# Altium footprint library ADIS16488+STM32.PcbLib: 14 footprints
Each footprint in its own frame and in the unit in brackets; x right, y up, seen from the top. Pads: shape width x height; smd on the part's side, far side on the other; paste and mask are expansions set on the pad; w line width, h text height; cw(c..) or ccw(c..) is an arc to the next point about the centre after c.
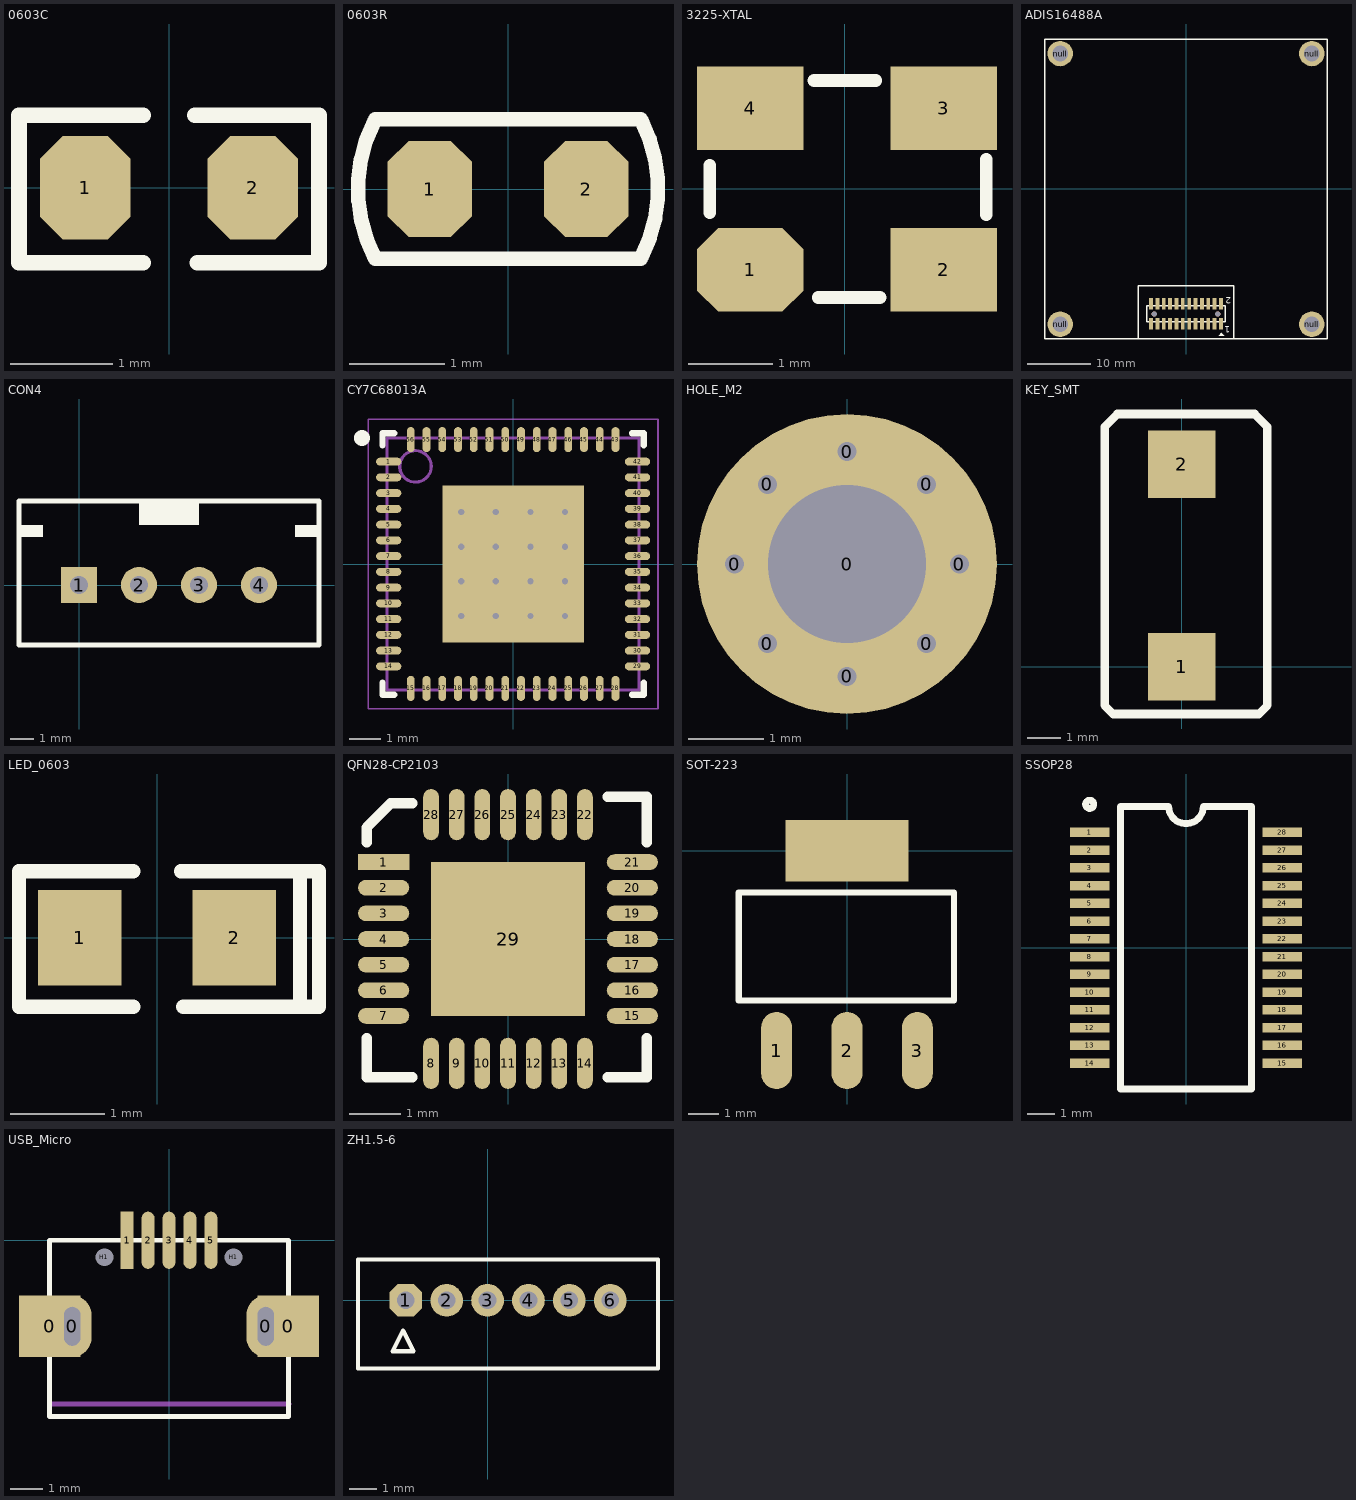
[diagram p0: the footprints below, top view; thin cyan lines are the x and y axes]

## 0603C [mil]
height 19.68
pads (2):
  oct 35x40 smd: 1(-32.47,0) 2(32.46,0)
Top Overlay:
  lines w6: -10,-29 -58,-29 -58,28 -10,28 ; 10,28 58,28 58,-29 11,-29
3D body: height 31.5, standoff 0, extent -31.49,-15.74 31.5,15.75

## 0603R [mil]
height 39.37
pads (2):
  oct 35x40 smd: 1(-32.46,0) 2(32.46,0)
Top Overlay:
  lines w6: -55.49,28.04 ccw(c0,0) -55,-29 55,-29 ; -55,29 55,29 ; 55.41,28.21 cw(c0,0) 55.49,-28.04
3D body: height 20.79, standoff 0, extent -49.64,-20.45 52.73,18.92

## 3225-XTAL [mm]
height 1.5
pads (4):
  oct 1.27x1 smd: 1(-1.127,-0.968)
  rect 1.27x1 smd: 2(1.184,-0.968) 3(1.184,0.962) 4(-1.127,0.962)
Top Overlay:
  lines w0.152: -1.61,-0.283 -1.61,0.276 ; -0.365,1.292 0.371,1.292 ; -0.314,-1.299 0.422,-1.299 ; 1.692,-0.308 1.692,0.352
3D body: height 0.61, standoff 0, extent -1.597,-1.208 1.603,1.292

## ADIS16488A [mm]
pads (28):
  rect 0.6x1.8 smd: 1(5.5,-21.209) 2(5.5,-18.107) 3(4.5,-21.209) 4(4.5,-18.107) 5(3.5,-21.209) 6(3.5,-18.107) 7(2.5,-21.209) 8(2.5,-18.107) 9(1.5,-21.209) 10(1.5,-18.107) 11(0.5,-21.209) 12(0.5,-18.107) 13(-0.5,-21.209) 14(-0.5,-18.107) 15(-1.5,-21.209) 16(-1.5,-18.107) 17(-2.5,-21.209) 18(-2.5,-18.107) 19(-3.5,-21.209) 20(-3.5,-18.107) 21(-4.5,-21.209) 22(-4.5,-18.107) 23(-5.5,-21.209) 24(-5.5,-18.107)
  round 4 hole 2.5: null(-19.8,-21.3) null(-19.8,21.3) null(19.8,-21.3) null(19.8,21.3)
via 5,-19.658 diameter 0.8 hole 0.8
via -5,-19.658 diameter 0.8 hole 0.8
Top Overlay:
  region: 5.118,-23.076 5.55,-22.644 5.982,-23.076
  lines w0.203: -7.5,-23.622 -7.5,-15.25 7.5,-15.25 7.5,-23.571 ; -22.2,-23.6 -22.2,23.6 22.2,23.6 22.2,-23.6 -22.2,-23.6 ; -6.2,-20.928 6.2,-20.928 6.2,-18.388 -6.2,-18.388 -6.2,-20.928
  text "1" at 6.985,-21.59 h1.02
  text "2" at 7.112,-17.018 h1.02
Top Solder:
  lines w0.203: -1.5,0 1.5,0 ; 0,-1.5 0,1.5
Bottom Solder:
  lines w0.203: -1.5,0 1.5,0 ; 0,-1.5 0,1.5

## CON4 [mil]
pads (4):
  rect 60x60 hole 30: 1(0,0)
  round 60 hole 30: 2(100,0) 3(200,0) 4(300,0)
Top Overlay:
  region: 400,80 400,100 360,100 360,80
  region: -60,80 -60,100 -100,100 -100,80
  region: 200,100 200,140 100,140 100,100
  lines w8: -100,-100 400,-100 400,140 -100,140 -100,-100

## CY7C68013A [mm]
height 1
pads (57):
  oval 0.8x0.25 smd: 1(-3.95,3.25) 2(-3.95,2.75) 3(-3.95,2.25) 4(-3.95,1.75) 5(-3.95,1.25) 6(-3.95,0.75) 7(-3.95,0.25) 8(-3.95,-0.25) 9(-3.95,-0.75) 10(-3.95,-1.25) 11(-3.95,-1.75) 12(-3.95,-2.25) 13(-3.95,-2.75) 14(-3.95,-3.25) 29(3.95,-3.25) 30(3.95,-2.75) 31(3.95,-2.25) 32(3.95,-1.75) 33(3.95,-1.25) 34(3.95,-0.75) 35(3.95,-0.25) 36(3.95,0.25) 37(3.95,0.75) 38(3.95,1.25) 39(3.95,1.75) 40(3.95,2.25) 41(3.95,2.75) 42(3.95,3.25)
  oval 0.25x0.8 smd: 15(-3.25,-3.95) 16(-2.75,-3.95) 17(-2.25,-3.95) 18(-1.75,-3.95) 19(-1.25,-3.95) 20(-0.75,-3.95) 21(-0.25,-3.95) 22(0.25,-3.95) 23(0.75,-3.95) 24(1.25,-3.95) 25(1.75,-3.95) 26(2.25,-3.95) 27(2.75,-3.95) 28(3.25,-3.95) 43(3.25,3.95) 44(2.75,3.95) 45(2.25,3.95) 46(1.75,3.95) 47(1.25,3.95) 48(0.75,3.95) 49(0.25,3.95) 50(-0.25,3.95) 51(-0.75,3.95) 52(-1.25,3.95) 53(-1.75,3.95) 54(-2.25,3.95) 55(-2.75,3.95) 56(-3.25,3.95)
  rect 4.5x5 smd: ""(0,0)
via 1.65,-1.65 diameter 0.5 hole 0.2
via 0.55,-1.65 diameter 0.5 hole 0.2
via -0.55,-1.65 diameter 0.5 hole 0.2
via -1.65,-1.65 diameter 0.5 hole 0.2
via 1.65,-0.55 diameter 0.5 hole 0.2
via 0.55,-0.55 diameter 0.5 hole 0.2
via -0.55,-0.55 diameter 0.5 hole 0.2
via -1.65,-0.55 diameter 0.5 hole 0.2
via 1.65,0.55 diameter 0.5 hole 0.2
via 0.55,0.55 diameter 0.5 hole 0.2
via -0.55,0.55 diameter 0.5 hole 0.2
via -1.65,0.55 diameter 0.5 hole 0.2
via 1.65,1.65 diameter 0.5 hole 0.2
via 0.55,1.65 diameter 0.5 hole 0.2
via -0.55,1.65 diameter 0.5 hole 0.2
via -1.65,1.65 diameter 0.5 hole 0.2
Top Overlay:
  circle w0.25: c-4.8,4 r0.125
  lines w0.2: -4.15,-3.775 -4.15,-4.15 -3.775,-4.15 ; -4.15,3.775 -4.15,4.15 -3.775,4.15 ; 3.775,-4.15 4.15,-4.15 4.15,-3.775 ; 3.775,4.15 4.15,4.15 4.15,3.775
Mechanical 13:
  circle w0.1: c-3.1,3.1 r0.5
  lines w0.1: -4,-4 4,-4 4,4 -4,4 -4,-4
Mechanical 15:
  lines w0.05: -4.6,-4.6 4.6,-4.6 4.6,4.6 -4.6,4.6 -4.6,-4.6
  lines w0.1: -0.5,0 0.5,0 ; 0,-0.5 0,0.5
3D body: height 1, standoff 0.05, extent -4,-4 4,4

## HOLE_M2 [mil]
pads (9):
  round 15 hole 10: 0(-59.06,0) 0(-41.73,-41.73) 0(-41.73,41.73) 0(0,-59.06) 0(0,59.06) 0(41.73,-41.73) 0(41.73,41.73) 0(59.06,0)
  round 157.48 hole 82.68: 0(0,0)

## KEY_SMT [mm]
pads (2):
  rect 2x2 smd: 1(0,0) 2(0,6)
Top Overlay:
  lines w0.254: -2.286,-1.143 -2.032,-1.397 -1.27,-1.397 1.27,-1.397 2.286,-1.397 2.54,-1.143 2.54,7.112 2.159,7.493 1.143,7.493 -1.143,7.493 -1.905,7.493 -2.286,7.112 -2.286,-1.143

## LED_0603 [mil]
height 39.37
pads (2):
  rect 35x40 smd: 1(-32.46,0) 2(32.46,0)
Top Overlay:
  lines w6: -10,-29 -58,-29 -58,28 -10,28 ; 10,28 68,28 68,-29 11,-29 ; 60,-29 60,28
3D body: height 33.45, standoff 0.23, extent -41.01,-17.84 40.19,17.84

## QFN28-CP2103 [mm]
height 1.5
pads (29):
  rect 1x0.305 smd: 1(-2.424,1.5)
  oval 1x0.305 smd: 2(-2.424,1) 3(-2.424,0.5) 4(-2.424,0) 5(-2.424,-0.5) 6(-2.424,-1) 7(-2.424,-1.5) 15(2.424,-1.5) 16(2.424,-1) 17(2.424,-0.5) 18(2.424,0) 19(2.424,0.5) 20(2.424,1) 21(2.424,1.5)
  oval 0.305x1 smd: 8(-1.5,-2.424) 9(-1,-2.424) 10(-0.5,-2.424) 11(0,-2.424) 12(0.5,-2.424) 13(1,-2.424) 14(1.5,-2.424) 22(1.5,2.424) 23(1,2.424) 24(0.5,2.424) 25(0,2.424) 26(-0.5,2.424) 27(-1,2.424) 28(-1.5,2.424)
  rect 3x3 smd: 29(0,0)
Top Overlay:
  lines w0.203: -2.754,-1.929 -2.754,-2.691 -1.865,-2.691 ; -2.754,1.881 -2.754,2.174 -2.285,2.643 -1.865,2.643 ; 1.945,-2.691 2.707,-2.691 2.707,-1.929 ; 1.945,2.77 2.707,2.77 2.707,1.881
3D body: height 1, standoff 0, extent -2.5,-2.5 2.5,2.5

## SOT-223 [mm]
pads (4):
  oval 1x2.5 smd: 1(-2.29,-6.5) 2(0,-6.5) 3(2.29,-6.5)
  rect 4x2 smd: ""(0,0)
Top Overlay:
  lines w0.2: -3.519,-4.869 -3.519,-1.369 3.481,-1.369 3.481,-4.869 -3.519,-4.869
3D body: height 1.68, standoff 0, extent -3.25,-6.782 3.25,0.178

## SSOP28 [mm]
pads (28):
  rect 1.45x0.35 smd: 1(-3.525,4.225) 2(-3.525,3.575) 3(-3.525,2.925) 4(-3.525,2.275) 5(-3.525,1.625) 6(-3.525,0.975) 7(-3.525,0.325) 8(-3.525,-0.325) 9(-3.525,-0.975) 10(-3.525,-1.625) 11(-3.525,-2.275) 12(-3.525,-2.925) 13(-3.525,-3.575) 14(-3.525,-4.225) 15(3.525,-4.225) 16(3.525,-3.575) 17(3.525,-2.925) 18(3.525,-2.275) 19(3.525,-1.625) 20(3.525,-0.975) 21(3.525,-0.325) 22(3.525,0.325) 23(3.525,0.975) 24(3.525,1.625) 25(3.525,2.275) 26(3.525,2.925) 27(3.525,3.575) 28(3.525,4.225)
Top Overlay:
  circle w0.25: c-3.525,5.25 r0.15
  lines w0.25: -2.4,-5.175 -2.4,5.175 -0.635,5.175 ccw(c0,5.175) 0.635,5.175 2.4,5.175 2.4,-5.175 -2.4,-5.175

## USB_Micro [mm]
height 2
pads (11):
  rect 1.9x1.9 smd: 0(-3.7,-2.667) 0(3.7,-2.667)
  oval 1.2x1.9 hole 0.5 slot 1.2 at 90 deg: 0(-3,-2.667) 0(3,-2.667)
  rect 0.4x1.778 smd: 1(-1.3,0)
  oval 0.4x1.778 smd: 2(-0.65,0) 3(0,0) 4(0.65,0) 5(1.3,0)
  round 0.3 hole 0.55 unplated: H1(-2,-0.525) H1(2,-0.525)
Top Overlay:
  lines w0.152: -3.7,-5.461 -3.048,-5.461 1.511,-5.461 2.652,-5.461 2.898,-5.461 3.7,-5.461 3.7,0 -3.7,0 -3.7,-5.406 -3.7,-5.461
Mechanical 1:
  lines w0.152: -3.683,-5.08 3.717,-5.08
3D body: height 2.74, standoff -0.26, extent -4.4,-5.473 4.4,0.127

## ZH1.5-6 [mm]
height 3.2
pads (6):
  oct 1.2x1.2 hole 0.65: 1(-3,0)
  round 1.2 hole 0.65: 2(-1.5,0) 3(0,0) 4(1.5,0) 5(3,0) 6(4.5,0)
Top Overlay:
  lines w0.152: -4.75,-2.5 -4.75,1.5 6.25,1.5 6.25,-2.5 -4.75,-2.5 ; -3.48,-1.865 -3.099,-1.103 -2.718,-1.865 -3.48,-1.865